# EAGLE library part ADUM3211 (library ELE4000_BMS)
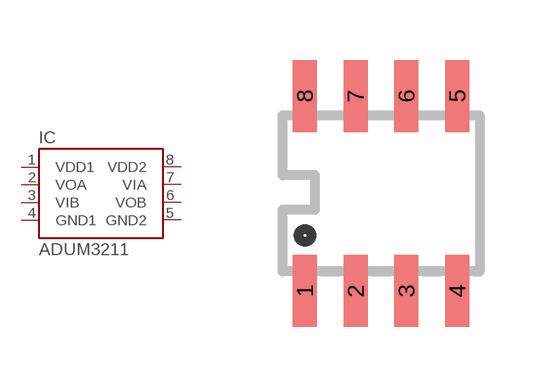
[diagram p1: symbol with the pads of SOIC_N; footprint SOIC_N]

Designator prefix IC

## ADUM3211  [SOIC_N]
1  VDD1  sup
2  VOA
3  VIB
4  GND1  sup
5  GND2  sup
6  VOB
7  VIA
8  VDD2  sup

## Footprint SOIC_N (pad centres in mm)
smd 0.6 x 1.8: 1 -1.905,-2.44; 2 -0.635,-2.44; 3 0.635,-2.44; 4 1.905,-2.44; 5 1.905,2.44; 6 0.635,2.44; 7 -0.635,2.44; 8 -1.905,2.44